# Altium schematic symbol library MOTELIGHT_ED03R1_20200205.SCHLIB: 103 symbols (part 1 of 2)
Pins are listed as number, name and electrical type; pins without a type are passive.

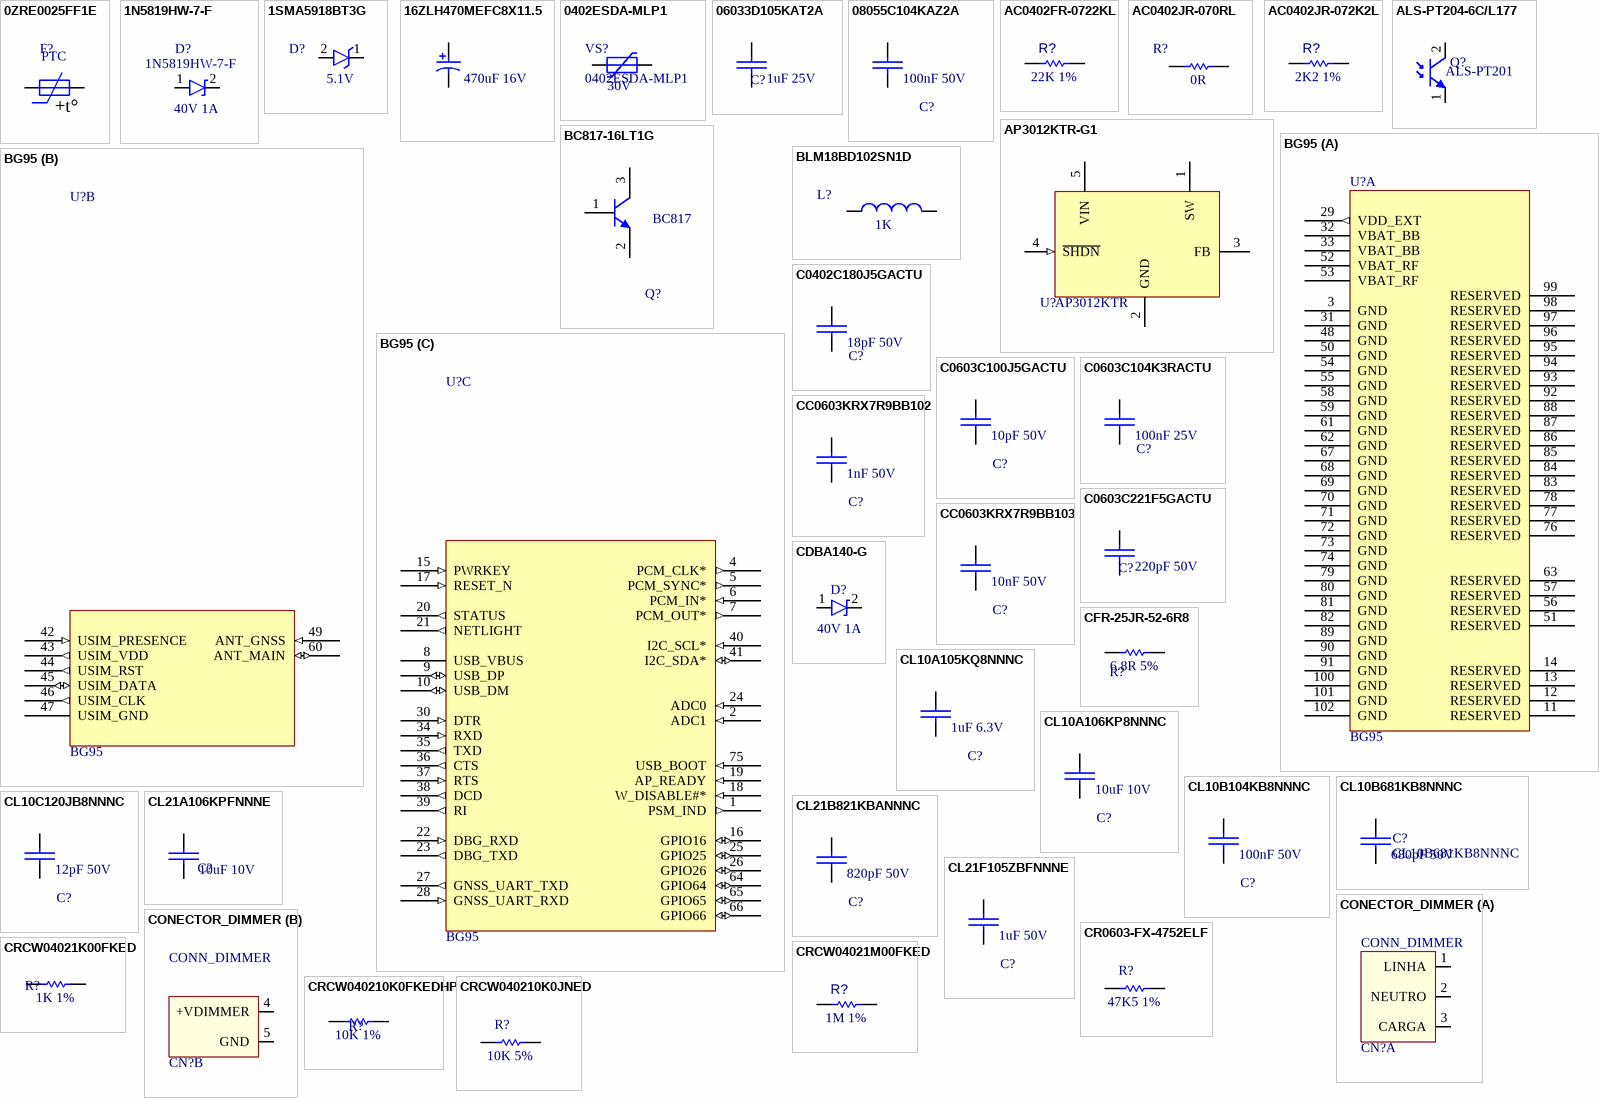
[diagram p0: symbols 0ZRE0025FF1E to CRCW040210K0JNED]

## 0ZRE0025FF1E
designator F?  VALOR: PTC  (hidden comment: 0ZRE0025FF1E)
PTC RESETTABLE 240V 250MA RADIAL; Manufacturer: Bel; ORIGEM: MoteLight_Ed03; Supplier 1: Digi-Key; Manufacturer Part Number: 0ZRE0025FF1E; Pricing 1: 1=0,42000, 5=0,40800, 10=0,39500, 50=0,33240, 100=0,27590, 250=0,25080, 500=0,21318, 1000=0,18810, 5000=0,16929 (USD); Case/Package: Radial; ComponentLink1Description: https://datasheet.ciiva.com/3020/0zre-3020114.pdf?src-supplier=Avnet; Supplier Part Number 1: 507-1352-ND
footprint PTC 0ZRE00 (PTC FUSIVEL RESSETAVEL)
pins: 1 A, 2 K
text: +t°

## 1N5819HW-7-F
designator D?  VALOR: 40V 1A
DIO SCHOTTKY 40V 1A SOD-123; Manufacturer: Diodes Inc; Manufacturer: Diodes; ORIGEM: MoteLight_Ed03; ComponentLink1Description: Manufacturer URL; Manufacturer Part Number: 1N5819HW-7-F; Case/Package: SOD-123
footprint DIO SOD-123-2_V
pins: 1 A, 2 K

## 1SMA5918BT3G
designator D?  VALOR: 5.1V  (hidden comment: 1SMA5918BT3G)
DIO ZENER 5.1V 1.5W SMA; Manufacturer: ON Semiconductor; ORIGEM: MoteLight_Ed02; Supplier 1: Digi-Key; Manufacturer Part Number: 1SMA5918BT3G; Pricing 1: 1=0.48, 10=0.365, 100=0.2273, 500=0.15552, 1000=0.11964 (USD); ComponentLink1URL: https://www.onsemi.com/pub/Collateral/1SMA5913BT3-D.PDF?src-supplier=Digi-Key; ComponentLink1Description: https://www.onsemi.com/pub/Collateral/1SMA5913BT3-D.PDF?src-supplier=Digi-Key; Case/Package: SMA
footprint DIO 403D (SMA)
pins: 1 K, 2 A

## 16ZLH470MEFC8X11.5
designator C?  VALOR: 470uF 16V  (hidden comment: 16ZLH470MEFC8X11.5)
CAP ALUM ELE 470UF 20% 16V RADIAL; Manufacturer: Rubycon; ORIGEM: MoteLight_Ed03; Supplier 1: Digi-Key; Manufacturer Part Number: 16ZLH470MEFC8X11.5; Pricing 1: 1=0,40000, 10=0,27500, 100=0,16500, 500=0,12376, 1000=0,10450, 2500=0,09900, 5000=0,09350 (USD); Case/Package: Radial; ComponentLink1Description: https://datasheet.ciiva.com/11778/0900766b80e2f602-11778329.pdf?src-supplier=RSComponents; Supplier Part Number 1: 1189-1859-ND
footprint Capacitor_D8_L3.5 (capacitor diametro 8mm, lead 3,5mm, 13mm altura)
pins: 1, 2

## 0402ESDA-MLP1
designator VS?  VALOR: 30V
VAR SMD SUPPRESSOR ESD 30VDC 0402; Manufacturer: Eaton Cooper; ORIGEM: MoteLight_Ed03; Supplier 1: Digi-Key; Supplier Part Number 1: 283-2964-1-ND; Pricing 1: 1=0,36000, 10=0,29100, 25=0,26680, 100=0,16740, 250=0,16556, 500=0,15500, 1000=0,10540, 2500=0,10106, 5000=0,09300 (USD); Case/Package: 0402; ComponentLink1URL: https://datasheet.ciiva.com/26858/getdatasheetpartid-204179-26858064.pdf?src-supplier=Verical; ComponentLink1Description: https://datasheet.ciiva.com/26858/getdatasheetpartid-204179-26858064.pdf?src-supplier=Verical; ComponentLink2URL: https://datasheet.ciiva.com/4479/47c59e11-d058-4882-bc35-d8572f2ca054-38826-4479481.pdf?src-supplier=Mouser; ComponentLink2Description: https://datasheet.ciiva.com/4479/47c59e11-d058-4882-bc35-d8572f2ca054-38826-4479481.pdf?src-supplier=Mouser; ComponentLink3URL: https://datasheet.ciiva.com/16199/47c59e11-d058-4882-bc35-d8572f2ca054-16199996.pdf?src-supplier=Future+Electronics; ComponentLink3Description: https://datasheet.ciiva.com/16199/47c59e11-d058-4882-bc35-d8572f2ca054-16199996.pdf?src-supplier=Future+Electronics; ComponentLink4URL: https://datasheet.ciiva.com/14542/70149788-14542763.pdf?src-supplier=Allied+Electronics; ComponentLink4Description: https://datasheet.ciiva.com/14542/70149788-14542763.pdf?src-supplier=Allied+Electronics; Manufacturer Part Number: 0402ESDA-MLP1
footprint IND 0402 (INDUTOR 0402)
pins: 1, 2

## 06033D105KAT2A
designator C?  VALOR: 1uF 25V  (hidden comment: 06033D105KAT2A)
CAP SMD CER 1uF 25V X5R 0603; Manufacturer: AVX Interconnect / Elco; Manufacturer: Kyocera AVX; ORIGEM: MoteLight_Ed03; Supplier 1: Digi-Key; Supplier Part Number 1: 478-5142-1-ND; Manufacturer Part Number: 06033D105KAT2A; Pricing 1: 1=0,19000, 10=0,13000, 100=0,06590, 500=0,04508, 1000=0,03987 (USD); Case/Package: 0603; ComponentLink1Description: https://datasheet.ciiva.com/153/cx5r-153394.pdf?src-supplier=Digi-Key
footprint CAP 0603 (CAPACITOR 0603)
pins: 1, 2
1 alternate drawing of the same symbol

## 08055C104KAZ2A
designator C?  VALOR: 100nF 50V  (hidden comment: 08055C104KAZ2A)
CAP SMD CER 100nF 50V X7R 0805; Manufacturer: Kyocera AVX; ORIGEM: MoteLight_Ed02; Supplier 1: Digi-Key; Manufacturer Part Number: 08055C104KAZ2A; Pricing 1: 1=0.28, 10=0.19, 100=0.1075, 500=0.0759, 1000=0.06641 (USD); Case/Package: 0805; ComponentLink1URL: http://www.farnell.com/datasheets/2095836.pdf; ComponentLink1Description: http://www.farnell.com/datasheets/2095836.pdf; Supplier Part Number 1: 478-3553-6-ND
footprint CAP 0805 (CAPACITOR 0805)
pins: 1, 2

## AC0402FR-0722KL
designator R?  VALOR: 22K 1%  (hidden comment: AC0402FR-0722KL)
RES SMD 22K OHM 1% 1/16W 0402; Manufacturer: Yageo; ORIGEM: MoteLight_Ed03; Case/Package: 0402; Manufacturer Part Number: AC0402FR-0722KL; Supplier 1: Digi-Key; Supplier Part Number 1: YAG3458CT-ND
footprint RES 0402 (RESISTOR 0402)
pins: 1, 2
1 alternate drawing of the same symbol

## AC0402JR-070RL
designator R?  VALOR: 0R  (hidden comment: AC0402JR-070RL)
RES SMD 0 OHM 1/16W 0402; Manufacturer: Yageo; ORIGEM: MoteLight_Ed02; Supplier 1: Digi-Key; Manufacturer Part Number: AC0402JR-070RL; Pricing 1: 1 = 0,10000, 10 = 0,02300, 25 = 0,01680, 50 = 0,01260, 100 = 0,00940, 250 = 0,00716, 500 = 0,00572, 1000 = 0,00421, 5000 = 0,00302 (USD); ComponentLink1URL: http://www.mouser.com/ds/2/447/yageodocoutput-1111992.pdf?src-supplier=Mouser; ComponentLink1Description: http://www.mouser.com/ds/2/447/yageodocoutput-1111992.pdf?src-supplier=Mouser; Supplier Part Number 1: 311-0.0LBCT-ND; Case/Package: 0402
footprint RES 0402 (RESISTOR 0402)
pins: 1, 2

## AC0402JR-072K2L
designator R?  VALOR: 2K2 1%  (hidden comment: AC0402JR-072K2L)
RES SMD 2K2 OHM 5% 1/16W 0402; Manufacturer: Yageo; ORIGEM: MoteLight_Ed03; Case/Package: 0402; Manufacturer Part Number: AC0402JR-072K2L; Supplier 1: Mouser; Supplier Part Number 1: 603-AC0402JR-072K2L
footprint RES 0402 (RESISTOR 0402)
pins: 1, 2
1 alternate drawing of the same symbol

## ALS-PT204-6C/L177
designator Q?  VALOR: ALS-PT201  (hidden comment: ALS-PT204-6C/L177)
PHOTOTRANS LIGHT SENSOR  3MM ALS-PT204; Manufacturer: Everlight; ORIGEM: MoteLight_Ed02; Supplier 1: Digi-Key; Pricing 1: 1 = 0,42000, 5 = 0,39800, 10 = 0,35300, 25 = 0,32560, 50 = 0,26040, 100 = 0,22320, 500 = 0,19530, 1000 = 0,16740, 5000 = 0,14880 (USD); Case/Package: Radial; ComponentLink1URL: https://datasheet.ciiva.com/4270/alspt2046cl1771589-4270328.pdf?src-supplier=Arrow; ComponentLink1Description: https://datasheet.ciiva.com/4270/alspt2046cl1771589-4270328.pdf?src-supplier=Arrow; Supplier Part Number 1: 1080-1019-ND; Manufacturer Part Number: ALS-PT204-6C/L177
footprint LED 3MM_REDONDO
pins: 1, 2

## AP3012KTR-G1
designator U?  VALOR: AP3012KTR  (hidden comment: AP3012KTR-G1)
IC REG BOOST ADJ 0.5A SOT25 AP3012KTR; Manufacturer: Diodes; ORIGEM: MoteLight_Ed03; Supplier 1: Digi-Key; Pricing 1: 1=0.48, 10=0.387, 100=0.2637, 500=0.19776, 1000=0.14832 (USD); ComponentLink1Description: http://www.diodes.com/datasheets/AP3012.pdf?src-supplier=Avnet; Supplier 2: Future Electronics; Pricing 2: 1=0.157, 100=0.141, 250=0.138, 500=0.136, 1500=0.133 (USD); Supplier Part Number 1: AP3012KTR-G1DICT-ND; Supplier Part Number 2: AP3012KTR-G1-CUTT; Manufacturer Part Number: AP3012KTR-G1; Case/Package: SOT-23-5
footprint IC SOT-23-5
pins: 1 SW, 2 GND (power), 3 FB, 4 ~{SHDN} (in), 5 VIN (power)

## BC817-16LT1G
designator Q?, comment VALOR: BC817  (hidden comment: TRN_BC817-16LT1G)
TRANS NPN 45V 0.5A SOT23 BC817; Manufacturer: ON Semiconductor; ORIGEM: MoteLight_Ed02; Supplier 1: Digi-Key; Pricing 1: 1 = 0,15000, 10 = 0,14100, 100 = 0,07660, 500 = 0,04712, 1000 = 0,03213 (USD); Case/Package: SOT-23-3; ComponentLink1URL: https://datasheet.ciiva.com/15139/getdatasheetpartid-72095-15139003.pdf?src-supplier=Verical; ComponentLink1Description: https://datasheet.ciiva.com/15139/getdatasheetpartid-72095-15139003.pdf?src-supplier=Verical; Supplier Part Number 1: BC817-16LT1GOSCT-ND; Manufacturer Part Number: BC817-16LT1G
footprint IC SOT-23-3
pins: 1 B, 2 E, 3 C

## BG95
designator U?, comment VALOR: BG95  (hidden comment: BG95A)
IC MODULE LTE CAT-M BG95; Manufacturer: Quectel; ORIGEM: MoteLight_Ed01r1; Case/Package: BGA; Manufacturer Part Number: BG95
footprint IC BG96 PINOS SUPRIMIDOS MOTELIGHT ED03
part A pins: 3 GND (power) "Ground", 11 RESERVED "Reserved", 12 RESERVED "Reserved", 13 RESERVED "Reserved", 14 RESERVED "Reserved", 29 VDD_EXT (out) "Provide 1.8V for external circuit", 31 GND (power) "Ground", 32 VBAT_BB (power) "Power supply for the module’s baseband part", 33 VBAT_BB (power) "Power supply for the module’s baseband part", 48 GND (power) "Ground", 50 GND (power) "Ground", 51 RESERVED "Reserved", 52 VBAT_RF (power) "Power supply for the module’s RF part", 53 VBAT_RF (power) "Power supply for the module’s RF part", 54 GND (power) "Ground", 55 GND (power) "Ground", 56 RESERVED "Reserved", 57 RESERVED "Reserved", 58 GND (power) "Ground", 59 GND (power) "Ground", 61 GND (power) "Ground", 62 GND (power) "Ground", 63 RESERVED "Reserved", 67 GND (power) "Ground", 68 GND (power) "Ground", 69 GND (power) "Ground", 70 GND (power) "Ground", 71 GND (power) "Ground", 72 GND (power) "Ground", 73 GND (power) "Ground", 74 GND (power) "Ground", 76 RESERVED "Reserved", 77 RESERVED "Reserved", 78 RESERVED "Reserved", 79 GND (power) "Ground", 80 GND (power) "Ground", 81 GND (power) "Ground", 82 GND (power) "Ground", 83 RESERVED "Reserved", 84 RESERVED "Reserved", 85 RESERVED "Reserved", 86 RESERVED "Reserved", 87 RESERVED "Reserved", 88 RESERVED "Reserved", 89 GND (power) "Ground", 90 GND (power) "Ground", 91 GND (power) "Ground", 92 RESERVED "Reserved", 93 RESERVED "Reserved", 94 RESERVED "Reserved", 95 RESERVED "Reserved", 96 RESERVED "Reserved", 97 RESERVED "Reserved", 98 RESERVED "Reserved", 99 RESERVED "Reserved", 100 GND (power) "Ground", 101 GND (power) "Ground", 102 GND (power) "Ground"
part B pins: 42 USIM_PRESENCE (in) "(U)SIM card insertion detection", 43 USIM_VDD (out) "Power supply for (U)SIM card", 44 USIM_RST (out) "Reset signal of (U)SIM card", 45 USIM_DATA (io) "Data signal of (U)SIM card", 46 USIM_CLK (out) "Clock signal of (U)SIM card", 47 USIM_GND (power) "Specified ground for (U)SIM card", 49 ANT_GNSS (in) "GNSS antenna interface", 60 ANT_MAIN (io) "Main antenna interface"
part C pins: 1 PSM_IND (out) "Power saving mode indicator", 2 ADC1 (in) "General purpose analog to digital converter interface", 4 PCM_CLK* (out) "PCM clock output", 5 PCM_SYNC* (out) "PCM frame synchronization output", 6 PCM_IN* (in) "PCM data input", 7 PCM_OUT* (out) "PCM data output", 8 USB_VBUS (power) "USB detection", 9 USB_DP (io) "USB differential data bus (+)", 10 USB_DM (io) "IO USB differential data bus (-)", 15 PWRKEY (in) "Turn on/off the module", 16 GPIO16 (io) "Generalpurpose input/ output interface", 17 RESET_N (in) "Reset the module", 18 W_DISABLE#* (in) "Airplane mode control", 19 AP_READY (in) "Application processor sleep state detection", 20 STATUS (out) "Indicate the module’s operation status", 21 NETLIGHT (out) "Indicate the module’s network activity status", 22 DBG_RXD (in) "Receive data", 23 DBG_TXD (out) "Transmit data", 24 ADC0 (in) "General purpose analog to digital converter interface", 25 GPIO25 (io) "Generalpurpose input/ output interface", 26 GPIO26 (io) "Generalpurpose input/ output interface", 27 GNSS_UART_TXD (out) "Transmit data", 28 GNSS_UART_RXD (in) "Receive data", 30 DTR (in) "Data terminal ready(sleep mode control)", 34 RXD (in) "Receive data", 35 TXD (out) "Transmit data", 36 CTS (out) "Clear to send", 37 RTS (in) "Request to send", 38 DCD (out) "Data carrier detection", 39 RI (out) "Ring indicator", 40 I2C_SCL* (in) "I2C serial clock. Used for external codec.", 41 I2C_SDA* (io) "I2C serial data. Used for external codec.", 64 GPIO64 (io) "Generalpurpose input/ output interface", 65 GPIO65 (io) "Generalpurpose input/ output interface", 66 GPIO66 (io) "Generalpurpose input/ output interface", 75 USB_BOOT (in) "Force the module to enter into emergency download mode"

## BLM18BD102SN1D
designator L?  VALOR: 1K  (hidden comment: BLM18BD102SN1D)
FERRITE BEAD 1 KOHM 0.1A 0603 1LN; Manufacturer: Murata; ORIGEM: MoteLight_Ed02; Supplier 1: Digi-Key; Manufacturer Part Number: BLM18BD102SN1D; Pricing 1: 1 = 0,10000, 10 = 0,07900, 25 = 0,07120, 50 = 0,05220, 100 = 0,04510, 250 = 0,03564, 500 = 0,03010, 1000 = 0,02534 (USD); ComponentLink1URL: https://datasheet.ciiva.com/19458/1844871-19458420.pdf?src-supplier=Jameco; ComponentLink1Description: https://datasheet.ciiva.com/19458/1844871-19458420.pdf?src-supplier=Jameco; Supplier Part Number 1: 490-1024-1-ND; Case/Package: 0603
footprint IND 0603 (INDUTOR 0603)
pins: 1, 2

## C0402C180J5GACTU
designator C?  VALOR: 18pF 50V  (hidden comment: C0402C180J5GACTU)
CAP SMD CER 18pF 50V C0G 0402; Manufacturer: KEMET; ORIGEM: MoteLight_Ed02; Supplier 1: Arrow; Manufacturer Part Number: C0402C180J5GACTU; Pricing 1: 1 = 0,08620, 10 = 0,03480, 25 = 0,02390, 100 = 0,01380, 250 = 0,01360, 500 = 0,01100, 1000 = 0,00940, 3000 = 0,00690, 6000 = 0,00620, 15000 = 0,00500 (USD); ComponentLink1URL: https://datasheet.ciiva.com/7392/40889-7392233.pdf?src-supplier=Newark; ComponentLink1Description: https://datasheet.ciiva.com/7392/40889-7392233.pdf?src-supplier=Newark; Supplier Part Number 1: C0402C180J5GACTU; Case/Package: 0402
footprint CAP 0402 (CAPACITOR 0402)
pins: 1, 2

## C0603C100J5GACTU
designator C?  VALOR: 10pF 50V  (hidden comment: C0603C100J5GACTU)
CAP SMD CER 10pF 50V 0603; Manufacturer: KEMET; ORIGEM: MoteLight_Ed02; Supplier 1: Digi-Key; Manufacturer Part Number: C0603C100J5GACTU; Pricing 1: 1=0.15, 10=0.11, 100=0.0515, 500=0.03614, 1000=0.02992 (USD); Case/Package: 0603; ComponentLink1URL: https://www.verical.com/server-webapp/html/getDatasheet?partID=299146&src-supplier=Verical; ComponentLink1Description: https://www.verical.com/server-webapp/html/getDatasheet?partID=299146&src-supplier=Verical; Supplier Part Number 1: 399-1049-1-ND
footprint CAP 0603 (CAPACITOR 0603)
pins: 1, 2

## C0603C104K3RACTU
designator C?  VALOR: 100nF 25V  (hidden comment: C0603C104K3RACTU)
CAP SMD CER 100nF 25V X7R 0603; Manufacturer: KEMET; ORIGEM: MoteLight_Ed02; Supplier 1: Digi-Key; Manufacturer Part Number: C0603C104K3RACTU; Pricing 1: 1 = 0,15000, 10 = 0,10900, 100 = 0,05110, 500 = 0,03580, 1000 = 0,02963 (USD); Case/Package: 0603; ComponentLink1URL: https://datasheet.ciiva.com/7258/1828800-7258395.pdf?src-supplier=Newark; ComponentLink1Description: https://datasheet.ciiva.com/7258/1828800-7258395.pdf?src-supplier=Newark; Supplier Part Number 1: 399-1281-1-ND
footprint CAP 0603 (CAPACITOR 0603)
pins: 1, 2

## C0603C221F5GACTU
designator C?  VALOR: 220pF 50V  (hidden comment: C0603C221F5GACTU)
CAP SMD CER 220PF 50V C0G/NP0 0603; Manufacturer: Kemet; ORIGEM: MoteLight_Ed03; Supplier 1: Digi-Key; Supplier Part Number 1: 399-7876-6-ND; Manufacturer Part Number: C0603C221F5GACTU; Pricing 1: 1=0,33000, 10=0,22800, 100=0,12900, 500=0,09108, 1000=0,07970 (USD); Case/Package: 0603; ComponentLink1Description: https://datasheet.ciiva.com/5414/kem-c1003-c0g-smd-5414749.pdf?src-supplier=Mouser; Manufacturer: KEMET
footprint CAP 0603 (CAPACITOR 0603)
pins: 1, 2
1 alternate drawing of the same symbol

## CC0603KRX7R9BB102
designator C?  VALOR: 1nF 50V  (hidden comment: CC0603KRX7R9BB102)
CAP SMD CER 1nF 50V X7R 0603; Manufacturer: Yageo; ORIGEM: MoteLight_Ed03; Supplier 1: Digi-Key; Manufacturer Part Number: CC0603KRX7R9BB102; Pricing 1: 1=0.1, 10=0.042, 100=0.0187, 500=0.01334, 1000=0.01048 (USD); Case/Package: 0603; ComponentLink1Description: http://www.yageo.com/documents/recent/UPY-GPHC_X7R_6.3V-to-50V_18.pdf?src-supplier=Digi-Key; Supplier Part Number 1: 311-1080-1-ND
footprint CAP 0603 (CAPACITOR 0603)
pins: 1, 2

## CC0603KRX7R9BB103
designator C?  VALOR: 10nF 50V  (hidden comment: CC0603KRX7R9BB103)
CAP SMD CER 10nF 50V X7R 0603; Manufacturer: Yageo; ORIGEM: MoteLight_Ed02; Supplier 1: Digi-Key; Manufacturer Part Number: CC0603KRX7R9BB103; Pricing 1: 1=0.1, 10=0.038, 100=0.0171, 500=0.01224, 1000=0.00962 (USD); Case/Package: 0603; ComponentLink1URL: http://www.farnell.com/datasheets/1734573.pdf?src-supplier=Element14; ComponentLink1Description: http://www.farnell.com/datasheets/1734573.pdf?src-supplier=Element14; Supplier Part Number 1: 311-1085-1-ND
footprint CAP 0603 (CAPACITOR 0603)
pins: 1, 2

## CDBA140-G
designator D?  VALOR: 40V 1A  (hidden comment: CDBA140-G)
DIO SCHOTTKY 40V 1A DO214AC; Manufacturer: Comchip; ORIGEM: MoteLight_Ed03; Supplier 1: Digi-Key; Pricing 1: 1=0,34000, 10=0,27700, 100=0,11330, 500=0,09450, 1000=0,06566, 2500=0,06103 (USD); ComponentLink1Description: https://datasheet.ciiva.com/912/cdba120-gthru934256-cdba1100-grevc-912052.pdf?src-supplier=Digi-Key; Supplier Part Number 1: 641-1015-1-ND; Case/Package: D0214; Manufacturer Part Number: CDBA140-G
footprint DIO DO214 AC (SMA)
pins: 1 A, 2 K

## CFR-25JR-52-6R8
designator R?  VALOR: 6.8R 5%  (hidden comment: CFR-25JR-52-6R8)
RES SMD 6.8 OHM 5% 1/4W  AXIAL; Manufacturer: Yageo; ORIGEM: MoteLight_Ed03; Supplier 1: Digi-Key; Manufacturer Part Number: CFR-25JR-52-6R8; Pricing 1: 5000=0,00884, 10000=0,00793, 25000=0,00728, 50000=0,00684, 125000=0,00668 (USD); Case/Package: Axial; ComponentLink1Description: http://www.yageo.com/NewPortal/yageodocoutput?fileName=/pdf/throughhole/Yageo_LR_CFR_2013.pdf&src-supplier=Digi-Key; Supplier Part Number 1: 6.8QTR-ND
footprint RESISTOR PTH 1/4W (Footprint not found)
pins: 1, 2

## CL10A105KQ8NNNC
designator C?  VALOR: 1uF 6.3V  (hidden comment: CL10A105KQ8NNNC)
CAP SMD CER 1uF 6.3V X5R 0603; Manufacturer: Samsung; ORIGEM: MoteLight_Ed02; Supplier 1: Digi-Key; Manufacturer Part Number: CL10A105KQ8NNNC; Pricing 1: 1=0.1, 10=0.031, 100=0.014, 500=0.01002, 1000=0.00787 (USD); Case/Package: 0603; ComponentLink1URL: https://www.verical.com/server-webapp/html/getDatasheet?partID=355285; ComponentLink1Description: https://www.verical.com/server-webapp/html/getDatasheet?partID=355285; Supplier Part Number 1: 1276-1036-6-ND
footprint CAP 0603 (CAPACITOR 0603)
pins: 1, 2

## CL10A106KP8NNNC
designator C?  VALOR: 10uF 10V  (hidden comment: CL10A106KP8NNNC)
CAP SMD CER 10uF 10V 0603; Manufacturer: Samsung; ORIGEM: MoteLight_Ed03; Supplier 1: Digi-Key; Manufacturer Part Number: CL10A106KP8NNNC; Pricing 1: 1=0.36, 10=0.248, 100=0.1403, 500=0.099, 1000=0.08663 (USD); Case/Package: 0603; ComponentLink1Description: https://www.verical.com/server-webapp/html/getDatasheet?partID=359551; Supplier Part Number 1: 1276-1192-1-ND
footprint CAP 0603 (CAPACITOR 0603)
pins: 1, 2

## CL10B104KB8NNNC
designator C?  VALOR: 100nF 50V  (hidden comment: CL10B104KB8NNNC)
CAP SMD CER 100nF 50V 0603; Manufacturer: Samsung; ORIGEM: MoteLight_Ed02; Supplier 1: Digi-Key; Manufacturer Part Number: CL10B104KB8NNNC; Pricing 1: 4000=0.00627 (USD); Case/Package: 0603; ComponentLink1URL: https://media.digikey.com/pdf/Data%20Sheets/Samsung%20PDFs/CL_Series_MLCC_ds.pdf; ComponentLink1Description: https://media.digikey.com/pdf/Data%20Sheets/Samsung%20PDFs/CL_Series_MLCC_ds.pdf; Supplier Part Number 1: 1276-1000-2-ND
footprint CAP 0603 (CAPACITOR 0603)
pins: 1, 2

## CL10B681KB8NNNC
designator C?  VALOR: 680pF 50V
CAP SMD CER 680pF 50V 10% 0603; Manufacturer: Samsung; ORIGEM: MoteLight_Ed02; Supplier 1: Digi-Key; Manufacturer Part Number: CL10B681KB8NNNC; Pricing 1: 1=0.1, 10=0.038, 100=0.0169, 500=0.01208, 1000=0.00949 (USD); ComponentLink1URL: https://www.verical.com/server-webapp/html/getDatasheet?partID=636613&src-supplier=Verical; ComponentLink1Description: https://www.verical.com/server-webapp/html/getDatasheet?partID=636613&src-supplier=Verical; Supplier Part Number 1: 1276-1080-1-ND; Case/Package: 0603
footprint CAP 0603 (CAPACITOR 0603)
pins: 1, 2

## CL10C120JB8NNNC
designator C?  VALOR: 12pF 50V  (hidden comment: CL10C120JB8NNNC)
CAP SMD CER 12pF 50V C0G 0603; Manufacturer: Samsung; ORIGEM: MoteLight_Ed02; Supplier 1: Digi-Key; Manufacturer Part Number: CL10C120JB8NNNC; Pricing 1: 1=0.1, 10=0.056, 100=0.0251, 500=0.01792, 1000=0.01408 (USD); Case/Package: 0603; ComponentLink1URL: https://media.digikey.com/pdf/Data%20Sheets/Samsung%20PDFs/CL_Series_MLCC_ds.pdf?src-supplier=Digi-Key; ComponentLink1Description: https://media.digikey.com/pdf/Data%20Sheets/Samsung%20PDFs/CL_Series_MLCC_ds.pdf?src-supplier=Digi-Key; Supplier Part Number 1: 1276-1254-1-ND
footprint CAP 0603 (CAPACITOR 0603)
pins: 1, 2

## CL21A106KPFNNNE
designator C?  VALOR: 10uF 10V  (hidden comment: CL21A106KPFNNNE)
CAP SMD CER 10uF 10V X5R 0805; Manufacturer: Samsung; ORIGEM: MoteLight_Ed02; Supplier 1: Digi-Key; Manufacturer Part Number: CL21A106KPFNNNE; Pricing 1: 1 = 0,13000, 10 = 0,09300, 100 = 0,04350, 500 = 0,03050, 1000 = 0,02525 (USD); Case/Package: 0805; ComponentLink1URL: https://datasheet.ciiva.com/16199/cl05b104kq5nnnc-16199024.pdf?src-supplier=Future+Electronics; ComponentLink1Description: https://datasheet.ciiva.com/16199/cl05b104kq5nnnc-16199024.pdf?src-supplier=Future+Electronics; Supplier Part Number 1: 1276-1052-1-ND
footprint CAP 0805 (CAPACITOR 0805)
pins: 1, 2

## CL21B821KBANNNC
designator C?  VALOR: 820pF 50V  (hidden comment: CL21B821KBANNNC)
CAP SMD CER 820pF 50V X7R 0805; Manufacturer: Samsung; ORIGEM: MoteLight_Ed02; Supplier 1: Digi-Key; Manufacturer Part Number: CL21B821KBANNNC; Pricing 1: 1=0.1, 10=0.054, 100=0.0242, 500=0.01728, 1000=0.01358 (USD); Case/Package: 0805; ComponentLink1URL: http://www1.futureelectronics.com/doc/SAMSUNG/CL21B821KBANNNC.pdf?src-supplier=Future+Electronics; ComponentLink1Description: http://www1.futureelectronics.com/doc/SAMSUNG/CL21B821KBANNNC.pdf?src-supplier=Future+Electronics; Supplier Part Number 1: 1276-2544-6-ND
footprint CAP 0805 (CAPACITOR 0805)
pins: 1, 2

## CL21F105ZBFNNNE
designator C?  VALOR: 1uF 50V  (hidden comment: CL21F105ZBFNNNE)
CAP SMD CER 1uF 50V Y5V 0805; Manufacturer: Samsung; ORIGEM: MoteLight_Ed02; Supplier 1: Digi-Key; Manufacturer Part Number: CL21F105ZBFNNNE; Pricing 1: 1=0.15, 10=0.106, 100=0.0498, 500=0.03488, 1000=0.02888 (USD); Case/Package: 0805; ComponentLink1URL: https://media.digikey.com/pdf/Data%20Sheets/Samsung%20PDFs/CL_Series_MLCC_ds.pdf?src-supplier=Digi-Key; ComponentLink1Description: https://media.digikey.com/pdf/Data%20Sheets/Samsung%20PDFs/CL_Series_MLCC_ds.pdf?src-supplier=Digi-Key; Supplier Part Number 1: 1276-3010-1-ND
footprint CAP 0805 (CAPACITOR 0805)
pins: 1, 2

## CONECTOR_DIMMER
designator CN?, comment VALOR: CONN_DIMMER  (hidden comment: CONECTOR_DIMMERA)
FURO PADS DE FIXACAO MOTELIGHT ED03; ORIGEM: MoteLight_Ed03; Case/Package: PTH; Manufacturer: -; Manufacturer Part Number: CONECTOR_DIMMERA
footprint CONN CONECTOR_DIMMER
part A pins: 1 LINHA, 2 NEUTRO, 3 CARGA
part B pins: 4 +VDIMMER, 5 GND

## CR0603-FX-4752ELF
designator R?  VALOR: 47K5 1%  (hidden comment: CR0603-FX-4752ELF)
RES SMD 47K5 OHM 1% 1/10W 0603; Manufacturer: Bourns; ORIGEM: MoteLight_Ed03; Supplier 1: Digi-Key; Manufacturer Part Number: CR0603-FX-4752ELF; Pricing 1: 1=0.1, 10=0.064, 100=0.0259, 1000=0.01163, 2500=0.0101 (USD); Case/Package: 0603; ComponentLink1Description: http://www.mouser.com/ds/2/54/chpreztr-977002.pdf?src-supplier=Mouser; Supplier Part Number 1: CR0603-FX-4752ELFDKR-ND
footprint RES 0603 (RESISTOR 0603)
pins: 1, 2

## CRCW04021K00FKED
designator R?  VALOR: 1K 1%  (hidden comment: CRCW04021K00FKED)
RES SMD 1K OHM 1% 1/16W 0402; Manufacturer: Vishay Dale; ORIGEM: MoteLight_Ed03; Supplier 1: Digi-Key; Supplier Part Number 1: 541-1.00KLDKR-ND; Manufacturer Part Number: CRCW04021K00FKED; Pricing 1: 1=0,10000, 10=0,03600, 100=0,01460, 1000=0,00657, 2500=0,00570, 5000=0,00471 (USD); Case/Package: 0402; ComponentLink1Description: https://datasheet.ciiva.com/11808/0900766b80d98824-11808638.pdf?src-supplier=RSComponents
footprint RES 0402 (RESISTOR 0402)
pins: 1, 2
1 alternate drawing of the same symbol

## CRCW04021M00FKED
designator R?  VALOR: 1M 1%  (hidden comment: CRCW04021M00FKED)
RES SMD 1M OHM 1% 1/16W 0402; Manufacturer: Vishay; ORIGEM: MoteLight_Ed03; Case/Package: 0402; Manufacturer Part Number: CRCW04021M00FKED; Supplier 1: Digi-Key; Supplier Part Number 1: 541-1.00MLCT-ND
footprint RES 0402 (RESISTOR 0402)
pins: 1, 2
1 alternate drawing of the same symbol

## CRCW040210K0FKEDHP
designator R?  VALOR: 10K 1%  (hidden comment: CRCW040210K0FKEDHP)
RES SMD 10K OHM 1% 1/5W 0402; Manufacturer: Vishay Dale; ORIGEM: MoteLight_Ed03; Supplier 1: Digi-Key; Supplier Part Number 1: 541-10.0KYCT-ND; Manufacturer Part Number: CRCW040210K0FKEDHP; Pricing 1: 1=0,14000, 10=0,12600, 100=0,04840, 1000=0,02130, 2500=0,01839, 5000=0,01646 (USD); Case/Package: 0402; ComponentLink1Description: https://datasheet.ciiva.com/9052/crcwhpe3-9052616.pdf?src-supplier=Avnet
footprint RES 0402 (RESISTOR 0402)
pins: 1, 2
1 alternate drawing of the same symbol

## CRCW040210K0JNED
designator R?  VALOR: 10K 5%  (hidden comment: CRCW040210K0JNED)
RES SMD 10K OHM 5% 1/16W 0402; Manufacturer: Vishay Dale; ORIGEM: MoteLight_Ed02; Supplier 1: Digi-Key; Manufacturer Part Number: CRCW040210K0JNED; Pricing 1: 1 = 0,10000, 10 = 0,03200, 100 = 0,01310, 1000 = 0,00590, 2500 = 0,00512, 5000 = 0,00423 (USD); Case/Package: 0402; ComponentLink1URL: https://datasheet.ciiva.com/2461/dcrcwe3-2461974.pdf?src-supplier=Digi-Key; ComponentLink1Description: https://datasheet.ciiva.com/2461/dcrcwe3-2461974.pdf?src-supplier=Digi-Key; Supplier Part Number 1: 541-10KJCT-ND
footprint RES 0402 (RESISTOR 0402)
pins: 1, 2

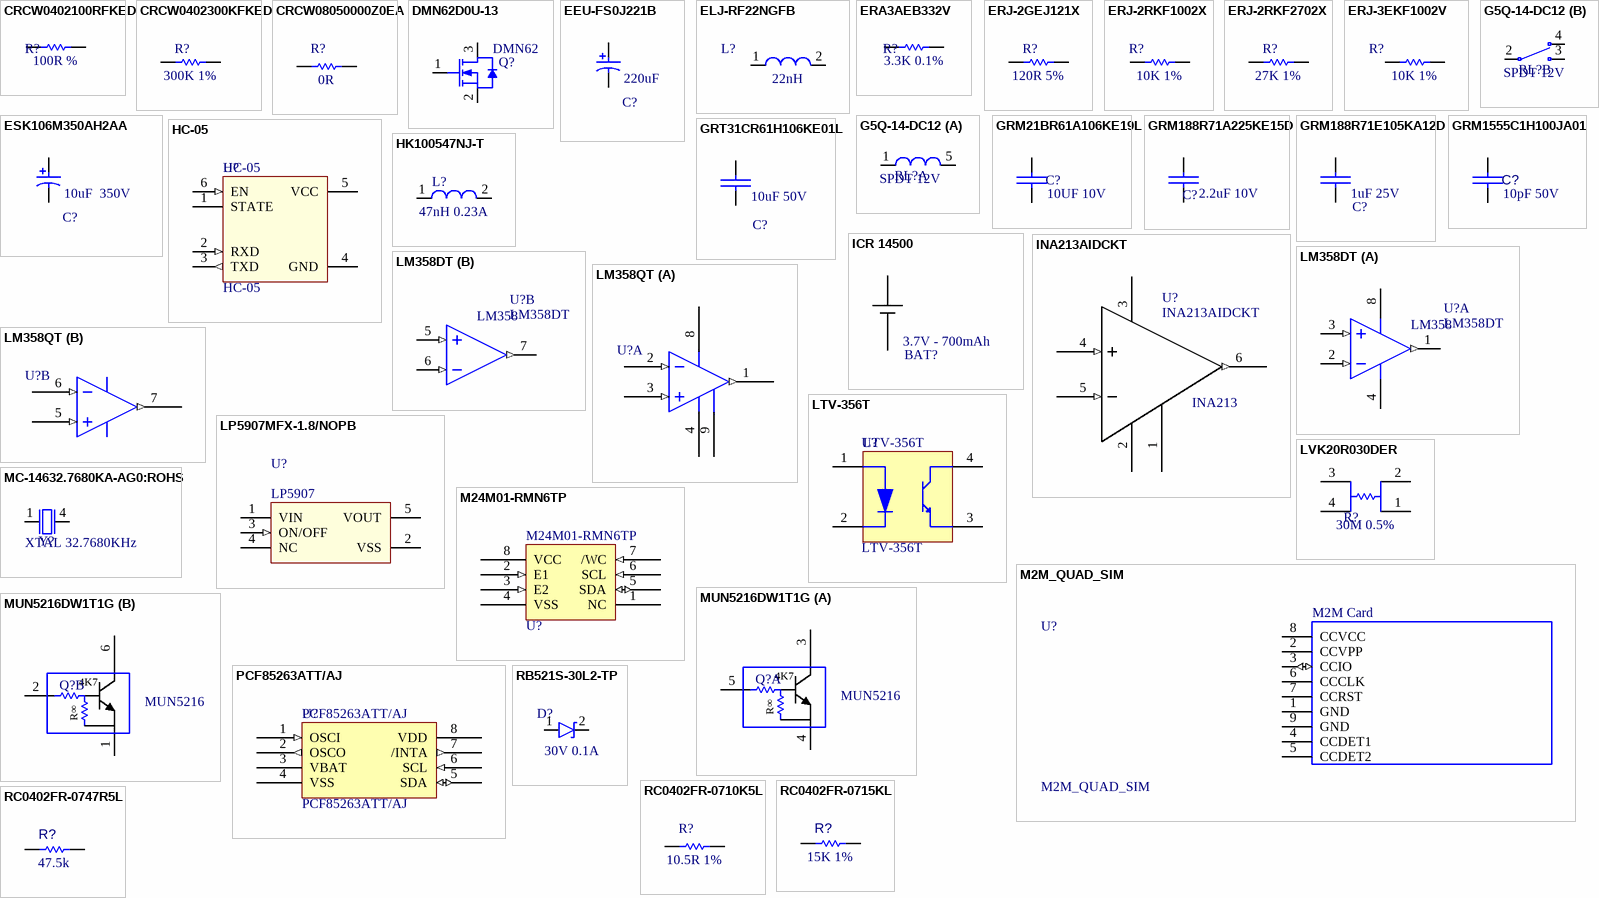
[diagram p1: symbols CRCW0402100RFKED to RC0402FR-0747R5L]

## CRCW0402100RFKED
designator R?  VALOR: 100R %  (hidden comment: CRCW0402100RFKED)
RES SMD 100 OHM 1% 1/16W 0402; Manufacturer: Vishay Dale; ORIGEM: MoteLight_Ed03; Supplier 1: Digi-Key; Supplier Part Number 1: 541-100LCT-ND; Manufacturer Part Number: CRCW0402100RFKED; Pricing 1: 1=0,10000, 10=0,03600, 100=0,01460, 1000=0,00657, 2500=0,00570, 5000=0,00471 (USD); Case/Package: 0402; ComponentLink1Description: https://datasheet.ciiva.com/11809/0900766b80d98824-11809081.pdf?src-supplier=RSComponents
footprint RES 0402 (RESISTOR 0402)
pins: 1, 2
1 alternate drawing of the same symbol

## CRCW0402300KFKED
designator R?  VALOR: 300K 1%  (hidden comment: CRCW0402300KFKED)
RES SMD 300K OHM 1% 1/16W 0402; Manufacturer: Vishay; ORIGEM: MoteLight_Ed03; Supplier 1: Digi-Key; Pricing 1: 1=0,10000, 10=0,03600, 100=0,01460, 1000=0,00657, 2500=0,00570, 5000=0,00471 (USD); Case/Package: 0402; ComponentLink1Description: https://datasheet.ciiva.com/11810/0900766b80d98824-11810173.pdf?src-supplier=RSComponents; Supplier Part Number 1: 541-300KLCT-ND; Manufacturer Part Number: CRCW0402300KFKED
footprint RES 0402 (RESISTOR 0402)
pins: 1, 2

## CRCW08050000Z0EA
designator R?  VALOR: 0R  (hidden comment: CRCW08050000Z0EA)
RES SMD 0 OHM 1/8W 0805; Manufacturer: Vishay; ORIGEM: MoteLight_Ed02; Supplier 1: Digi-Key; Manufacturer Part Number: CRCW08050000Z0EA; Pricing 1: 1 = 0,10000, 10 = 0,04400, 25 = 0,03160, 50 = 0,02420, 100 = 0,01780, 250 = 0,01360, 500 = 0,01090, 1000 = 0,00802 (USD); Case/Package: 0805; ComponentLink1URL: https://datasheet.ciiva.com/11811/0900766b80d98b26-11811304.pdf?src-supplier=RSComponents; ComponentLink1Description: https://datasheet.ciiva.com/11811/0900766b80d98b26-11811304.pdf?src-supplier=RSComponents; Supplier Part Number 1: 541-0.0ACT-ND
footprint RES 0805 (RESISTOR 0805)
pins: 1, 2

## DMN62D0U-13
designator Q?  VALOR: DMN62  (hidden comment: DMN62D0U-13)
TRANS MOSFET N-CH 60V 0.38A SOT-23 DMN62DOU; Manufacturer: Diodes; ORIGEM: MoteLight_Ed02; Supplier 1: Digi-Key; Manufacturer Part Number: DMN62D0U-13; Pricing 1: 1=0,31000, 10=0,25700, 100=0,10520, 500=0,08778, 1000=0,06100 (USD); Case/Package: SOT-23; ComponentLink1URL: http://www.mouser.com/ds/2/115/DMN62D0U-767517.pdf?src-supplier=Mouser; ComponentLink1Description: http://www.mouser.com/ds/2/115/DMN62D0U-767517.pdf?src-supplier=Mouser; Supplier Part Number 1: DMN62D0U-13DICT-ND
footprint IC SOT-23-3
pins: 1 G, 2 S, 3 D

## EEU-FS0J221B
designator C?  VALOR: 220uF  (hidden comment: EEU-FS0J221B)
CAP ALUM ELE 220UF 20% 6.3V T/H RADIAL; Manufacturer: Panasonic; ORIGEM: MoteLight_Ed02; Supplier 1: Digi-Key; Manufacturer Part Number: EEU-FS0J221B; Pricing 1: 1=0,10000, 10=0,04300 (USD); Case/Package: Radial; ComponentLink1URL: https://industrial.panasonic.com/cdbs/www-data/pdf/RDF0000/ABA0000C1255.pdf?src-supplier=Digi-Key; ComponentLink1Description: https://industrial.panasonic.com/cdbs/www-data/pdf/RDF0000/ABA0000C1255.pdf?src-supplier=Digi-Key; Supplier Part Number 1: P122286CT-ND
footprint CAP_POL_5dx2x11h (CAP ALUM POL D=5mm P = 2mm h = 11mm)
pins: 1, 2

## ELJ-RF22NGFB
designator L?  VALOR: 22nH  (hidden comment: ELJ-RF22NGFB)
IND SMD 22nH 2%  800mOhm 0402; Manufacturer: Panasonic; ORIGEM: MoteLight_Ed02; Supplier 1: Arrow; Manufacturer Part Number: ELJ-RF22NGFB; Case/Package: 0402; ComponentLink1URL: https://datasheet.ciiva.com/24070/aga0000ce24-465590-24070665.pdf?src-supplier=Mouser; ComponentLink1Description: https://datasheet.ciiva.com/24070/aga0000ce24-465590-24070665.pdf?src-supplier=Mouser; Supplier Part Number 1: ELJ-RF22NGFB
footprint IND 0402 (INDUTOR 0402)
pins: 1, 2

## ERA3AEB332V
designator R?  VALOR: 3.3K 0.1%  (hidden comment: ERA3AEB332V)
RES SMD 3.3K OHM 0.1% 1/10W 0603; Manufacturer: Panasonic; Manufacturer Part Number: ERA-3AEB332V; ORIGEM: MoteLight_Ed03; Supplier 1: Digi-Key; Supplier Part Number 1: P3.3KDBCT-ND; Case/Package: 0603
footprint RES 0603 (RESISTOR 0603)
pins: 1, 2
1 alternate drawing of the same symbol

## ERJ-2GEJ121X
designator R?  VALOR: 120R 5%  (hidden comment: ERJ-2GEJ121X)
RES SMD 120 OHM 5% 1/10W 0402; Manufacturer: Panasonic; ORIGEM: MoteLight_Ed02; Manufacturer Part Number: ERJ-2GEJ121X; Pricing 1: 1=0.1, 10=0.031, 100=0.0125, 1000=0.0056, 2500=0.00486, 5000=0.00401 (USD); Case/Package: 0402; ComponentLink1URL: http://www.jameco.com/Jameco/Products/ProdDS/1986810.pdf?src-supplier=Jameco; ComponentLink1Description: http://www.jameco.com/Jameco/Products/ProdDS/1986810.pdf?src-supplier=Jameco; Supplier Part Number 1: P120JCT-ND; Supplier 1: Digi-Key
footprint RES 0402 (RESISTOR 0402)
pins: 1, 2

## ERJ-2RKF1002X
designator R?  VALOR: 10K 1%  (hidden comment: ERJ-2RKF1002X)
RES SMD 10K OHM 1% 1/10W 0402; Manufacturer: Panasonic; ORIGEM: MoteLight_Ed03; ComponentLink1Description: Manufacturer URL; Manufacturer Part Number: ERJ-2RKF1002X; Case/Package: 0402; Supplier 1: Digi-Key; Supplier Part Number 1: P10.0KLDKR-ND
footprint RES 0402 (RESISTOR 0402)
pins: 1, 2

## ERJ-2RKF2702X
designator R?, comment VALOR: 27K 1%  (hidden comment: RES SMD 27K 0402)
RES SMD 27K OHM 1% 1/10W 0402; Manufacturer: Panasonic; Manufacturer Part Number: ERJ-2RKF2702X; ORIGEM: MoteLight_Ed03; Supplier 1: Digi-Key; Pricing 1: 1=0,10000, 10=0,04100, 100=0,01670, 1000=0,00751, 2500=0,00652, 5000=0,00538 (USD); Case/Package: 0402; ComponentLink1Description: https://datasheet.ciiva.com/11821/0900766b80f80784-11821258.pdf?src-supplier=RSComponents; Supplier Part Number 1: P27.0KLCT-ND
footprint RES 0402 (RESISTOR 0402)
pins: 1, 2

## ERJ-3EKF1002V
designator R?  VALOR: 10K 1%  (hidden comment: ERJ-3EKF1002V)
RES SMD 10K OHM 1% 1/10W 0603; Manufacturer: Panasonic; ORIGEM: MoteLight_Ed02; Supplier 1: Digi-Key; Manufacturer Part Number: ERJ-3EKF1002V; Pricing 1: 1 = 0,10000, 10 = 0,06500, 100 = 0,02640, 1000 = 0,01186, 2500 = 0,01029 (USD); Case/Package: 0603; ComponentLink1URL: https://datasheet.ciiva.com/16511/aoa0000ce2-16511861.pdf?src-supplier=Avnet+Asia; ComponentLink1Description: https://datasheet.ciiva.com/16511/aoa0000ce2-16511861.pdf?src-supplier=Avnet+Asia; Supplier Part Number 1: P10.0KHCT-ND
footprint RES 0603 (RESISTOR 0603)
pins: 1, 2

## ESK106M350AH2AA
designator C?  VALOR: 10uF  350V  (hidden comment: ESK106M350AH2AA)
CAP ALUM ELE 10uF 20% 350V RADIAL; Manufacturer: KEMET; ORIGEM: MoteLight_Ed03; Supplier 1: Digi-Key; Pricing 1: 1=0,46000, 10=0,32600, 100=0,21440, 500=0,15880, 1000=0,13498, 2500=0,12704, 5000=0,11910 (USD); Case/Package: Radial; ComponentLink1Description: https://datasheet.ciiva.com/22621/1500292-22621029.pdf?src-supplier=Element14; Supplier Part Number 1: 399-6101-ND; Manufacturer Part Number: ESK106M350AH2AA
footprint Capacitor_D10 H17mm (capacitor diametro 10mm, lead 5mm, 17mm altura)
pins: 1, 2

## G5Q-14-DC12
designator RL?  VALOR: SPDT 12V  (hidden comment: G5Q-14-DC12)
RELE SPDT 12VDC 360Ohm Through Hole; Manufacturer: Omron; ORIGEM: MoteLight_Ed03; Supplier 1: Digi-Key; Manufacturer Part Number: G5Q-14-DC12; Pricing 1: 1=1.43, 10=1.344, 25=1.1948, 50=1.1348, 100=1.0751, 250=0.95568, 500=0.89596 (USD); ComponentLink1Description: http://www.mouser.com/ds/2/307/en-g5q-22333.pdf?src-supplier=Mouser; Supplier Part Number 1: Z225-ND; Case/Package: PTH
footprint RELE G5Q14EUDC5
part A pins: 1, 5
part B pins: 2 COM-1, 3 N.O-1, 4 N.C-1

## GRM21BR61A106KE19L
designator C?  VALOR: 10UF 10V  (hidden comment: GRM21BR61A106KE19L)
CAP SMD CER 10uF 10V X5R 0805; Manufacturer: Murata; ORIGEM: MoteLight_Ed02; Supplier 1: Digi-Key; Supplier Part Number 1: 490-1709-1-ND; Pricing 1: 1=0.27 (USD); ComponentLink1URL: https://www.distrelec.biz/Web/Downloads/_t/ds/murata_MLCC_eng_tds.pdf?mime=application%2Fpdf&src-supplier=Distrelec; ComponentLink1Description: https://www.distrelec.biz/Web/Downloads/_t/ds/murata_MLCC_eng_tds.pdf?mime=application%2Fpdf&src-supplier=Distrelec; Manufacturer Part Number: GRM21BR61A106KE19L; Case/Package: 0805
footprint CAP 0805 (CAPACITOR 0805)
pins: 1, 2

## GRM188R71A225KE15D
designator C?  VALOR: 2.2uF 10V  (hidden comment: GRM188R71A225KE15D)
CAP SMD CER 2.2uF 10V X7R 0603; Manufacturer: Murata; ORIGEM: MoteLight_Ed02; Supplier 1: Digi-Key; Supplier Part Number 1: 490-4520-1-ND; Manufacturer Part Number: GRM188R71A225KE15D; Pricing 1: 1=0,28000, 10=0,19200, 100=0,10870, 500=0,07672, 1000=0,06713 (USD); Case/Package: 0603; ComponentLink1URL: https://datasheet.ciiva.com/138/product-138560.pdf?src-supplier=Digi-Key; ComponentLink1Description: https://datasheet.ciiva.com/138/product-138560.pdf?src-supplier=Digi-Key
footprint CAP 0603 (CAPACITOR 0603)
pins: 1, 2
1 alternate drawing of the same symbol

## GRM188R71E105KA12D
designator C?  VALOR: 1uF 25V  (hidden comment: GRM188R71E105KA12D)
CAP SMD CER 1uF 25V X7R 0603; Manufacturer: Murata; ORIGEM: MoteLight_Ed02; Supplier 1: Arrow; Manufacturer Part Number: GRM188R71E105KA12D; ComponentLink1URL: https://datasheet.ciiva.com/16625/product-16625507.pdf?src-supplier=Avnet+Europe; ComponentLink1Description: https://datasheet.ciiva.com/16625/product-16625507.pdf?src-supplier=Avnet+Europe; Case/Package: 0603
footprint CAP 0603 (CAPACITOR 0603)
pins: 1, 2

## GRM1555C1H100JA01
designator C?  VALOR: 10pF 50V  (hidden comment: GRM1555C1H100JA01)
CAP SMD CER 10pF 50V C0G 0402; Manufacturer: Murata; ORIGEM: MoteLight_Ed03; Case/Package: 0402; Manufacturer Part Number: GRM1555C1H100JA01; Supplier 1: Digi-Key; Supplier Part Number 1: 490-11373-1-ND
footprint CAP 0402 (CAPACITOR 0402)
pins: 1, 2

## GRT31CR61H106KE01L
designator C?  VALOR: 10uF 50V  (hidden comment: GRT31CR61H106KE01L)
CAP SMD CER 10uF 50V X5R 1206; Manufacturer: Murata; ORIGEM: MoteLight_Ed02; Supplier 1: Digi-Key; Manufacturer Part Number: GRT31CR61H106KE01L; Pricing 1: 1=0.77, 10=0.569, 100=0.3903, 500=0.30902, 1000=0.26023 (USD); Case/Package: 1206; Supplier Part Number 1: 490-12456-1-ND
footprint CAP 1206 (CAPACITOR 1206)
pins: 1, 2

## HC-05
designator U?
IC BLUETOOTH MODULE HC05 5V; ORIGEM: MoteLight_Ed03; Case/Package: MODULE; Manufacturer Part Number: HC-05; VALOR: HC-05
footprint IC HC-05 (FOOTPRINT DO MODULO HC-05 BLUETOOTH)
pins: 1 STATE, 2 RXD (in), 3 TXD (out), 4 GND (power), 5 VCC (power), 6 EN (in)

## HK100547NJ-T
designator L?  VALOR: 47nH 0.23A  (hidden comment: HK100547NJ-T)
IND SMD 47NH 230MA 1OHM 0402; Manufacturer: Taiyo Yuden; ORIGEM: MoteLight_Ed03; Supplier 1: Digi-Key; Manufacturer Part Number: HK100547NJ-T; Pricing 1: 1=0,10000, 10=0,02900, 100=0,01960, 500=0,01582, 1000=0,01351, 2500=0,01208 (USD); Case/Package: 0402; ComponentLink1Description: https://datasheet.ciiva.com/8001/hk100547nj-t-ss-8001958.pdf?src-supplier=Element14; Supplier Part Number 1: 587-1527-1-ND
footprint IND 0402 (INDUTOR 0402)
pins: 1, 2

## ICR 14500
designator BAT?  VALOR: 3.7V - 700mAh  (hidden comment: ICR 14500)
BATT LI-ION BATTERY (3.7V - 700mAh); Manufacturer: Ex Power; ORIGEM: MoteLight_Ed03; Case/Package: AA; Manufacturer Part Number: ICR 14500; Supplier 1: STREMA BATERIAS
pins: 8, 9

## INA213AIDCKT
designator U?  VALOR: INA213
IC CURRENT SENSE INA213; Manufacturer: Texas Instruments; ORIGEM: MoteLight_Ed03; Supplier 1: Digi-Key; Pricing 1: 1=1,49000, 10=1,34100, 25=1,26520, 100=1,01200 (USD); Case/Package: SC; ComponentLink1Description: https://datasheet.ciiva.com/1939/ina210-1939616.pdf?src-supplier=Digi-Key; Supplier Part Number 1: 296-23421-1-ND; Manufacturer Part Number: INA213AIDCKT
footprint IC DCK-6 (DCK-6)
pins: 1 REF (power), 2 GND (power), 3 V+ (power), 4 IN+1 (in), 5 IN-1 (in), 6 OUT1 (out)

## LM358DT
designator U?  VALOR: LM358
IC AMPOP LM358T; Manufacturer: ST; Manufacturer Part Number: LM358DTA; ORIGEM: MoteLight_Ed03; Case/Package: SO8N
footprint IC SO8N (SOIC 8 PINS)
part A pins: 1 OUT1 (out), 2 IN- (in), 3 IN+ (in), 4 V- (power), 8 V+ (power)
part B pins: 5 IN+ (in), 6 IN- (in), 7 OUT1 (out)

## LM358QT
designator U?, comment LM358QT - 8DFN  (value not drawn)
IC AMPOP GP 1.1MHZ 8DFN LM358QT; Manufacturer: STMicroelectronics; ORIGEM: MoteLight_Ed03; Supplier 1: Digi-Key; Supplier Part Number 1: 497-12007-1-ND; Pricing 1: 1=0,39000, 10=0,31500, 25=0,28840, 100=0,19460, 250=0,16104, 500=0,14762, 1000=0,11072 (USD); Case/Package: DFN; VALOR: LM358QT; ComponentLink1URL: https://datasheet.ciiva.com/16444/cd00000464-16444193.pdf?src-supplier=Future+Electronics; ComponentLink1Description: https://datasheet.ciiva.com/16444/cd00000464-16444193.pdf?src-supplier=Future+Electronics; ComponentLink2URL: https://datasheet.ciiva.com/1810/cd00000464-1810994.pdf?src-supplier=Digi-Key; ComponentLink2Description: https://datasheet.ciiva.com/1810/cd00000464-1810994.pdf?src-supplier=Digi-Key; ComponentLink3URL: https://datasheet.ciiva.com/1810/cd00000464-1810995.pdf?src-supplier=Digi-Key; ComponentLink3Description: https://datasheet.ciiva.com/1810/cd00000464-1810995.pdf?src-supplier=Digi-Key; ComponentLink4URL: https://datasheet.ciiva.com/1810/cd00000464-1810996.pdf?src-supplier=Digi-Key; ComponentLink4Description: https://datasheet.ciiva.com/1810/cd00000464-1810996.pdf?src-supplier=Digi-Key; Manufacturer Part Number: LM358QT
footprint IC DFN8 2x2 (DFN8 2x2)
part A pins: 1 OUT1 (out), 2 IN-1 (in), 3 IN+1 (in), 4 GND (power), 8 VDD (power), 9 GND (power)
part B pins: 5 IN+2 (in), 6 IN-2 (in), 7 OUT2 (out)

## LP5907MFX-1.8/NOPB
designator U?  VALOR: LP5907  (hidden comment: LP5907MFX-1.8/NOPB)
IC REG LDO 1.8V 0.25A SOT23-5 LP5907MFX-1.8; Manufacturer: Texas Instruments; ORIGEM: MoteLight_Ed02; Supplier 1: Digi-Key; Pricing 1: 1=0.55, 10=0.475, 100=0.3547, 500=0.27872, 1000=0.21537 (USD); ComponentLink1URL: http://www.ti.com/lit/ds/symlink/lp5907.pdf?src-supplier=Digi-Key; ComponentLink1Description: http://www.ti.com/lit/ds/symlink/lp5907.pdf?src-supplier=Digi-Key; Supplier Part Number 1: 296-41463-1-ND; Case/Package: SOT-23-5; Manufacturer Part Number: LP5907MFX-1.8/NOPB
footprint IC SOT-23-5
pins: 1 VIN (power), 2 VSS (power), 3 ON/OFF (in), 4 NC, 5 VOUT (power)

## LTV-356T
designator U?
OPTOISO 3.75kV TRANS 4-Pin Mini-Flat LTV-356T; Manufacturer: Lite-On; Manufacturer: Vishay Lite-On; ORIGEM: MoteLight_Ed03; Manufacturer Part Number: LTV-356T; Case/Package: SMD; VALOR: LTV-356T
footprint IC OPTO LTST-LTV-356T-4_V
pins: 1 ANODE, 2 CATHODE, 3 EMITTER, 4 COLLECTOR

## LVK20R030DER
designator R?  VALOR: 30M 0.5%  (hidden comment: LVK20R030DER)
RES SMD 30 MOHM 0.5% 3/4W 2010; Manufacturer: Ohmite; ORIGEM: MoteLight_Ed03; Supplier 1: Mouser; Pricing 1: 1=1,16000, 10=1,02000, 25=0,94400, 50=0,86200, 100=0,74600, 250=0,63000 (USD); Case/Package: 2010; ComponentLink1Description: https://datasheet.ciiva.com/2617/res-lvk-2617280.pdf?src-supplier=Digi-Key; Supplier Part Number 1: 588-LVK20R030DER; Manufacturer Part Number: LVK20R030DER
footprint RES LVK20R030DER (Footprint not found)
pins: 1 V, 2 I, 3 I, 4 V

## M2M_QUAD_SIM
designator U?  VALOR: M2M Card
IC eSIM Full M2M Quad MIM GEMALTO; ORIGEM: MoteLight_Ed03; Case/Package: VQFN8; Manufacturer Part Number: Full M2M Quad MIM; Manufacturer: GEMALTO
footprint IC M2M_QUAD_SIM
pins: 1 GND, 2 CCVPP, 3 CCIO (io), 4 CCDET1, 5 CCDET2, 6 CCCLK, 7 CCRST, 8 CCVCC (power), 9 GND

## M24M01-RMN6TP
designator U?
IC EEPROM 1M I2C 1MHZ 8SO; Manufacturer: STMicroelectronics; ORIGEM: MoteLight_Ed03; Supplier 1: Digi-Key; Manufacturer Part Number: M24M01-RMN6TP; Pricing 1: 1=1,02000, 10=0,92600, 25=0,91400, 50=0,90900, 100=0,81270, 250=0,80568, 500=0,79394, 1000=0,76530 (USD); Case/Package: SOIC; ComponentLink1Description: https://datasheet.ciiva.com/1905/cd00147128-1905280.pdf?src-supplier=Digi-Key; Supplier Part Number 1: 497-6351-1-ND; VALOR: M24M01-RMN6TP
footprint IC 8-SOIC
pins: 1 NC "Dont use", 2 E1 (in) "Chip Enable1", 3 E2 (in) "Chip Enable2", 4 VSS (power) "Ground", 5 SDA (io) "Serial Data", 6 SCL (in) "Serial Clock", 7 /WC (in) "Write Control", 8 VCC (power) "Supply Voltage"

## MC-14632.7680KA-AG0:ROHS
designator Y?  VALOR: XTAL 32.7680KHz
XTAL 32.7680 KHZ 7.0PF SMD; Manufacturer: Epson; Manufacturer Part Number: MC-14632.7680KA-AG0:ROHS; ORIGEM: MoteLight_Ed03; Supplier 1: Digi-Key; Case/Package: SMD/SMT; ComponentLink1Description: https://support.epson.biz/td/api/doc_check.php?dl=brief_MC-156_en.pdf&src-supplier=Digi-Key; Supplier Part Number 1: SER4304DKR-ND
footprint XTAL MC-14632
pins: 1, 4

## MUN5216DW1T1G
designator Q?  VALOR: MUN5216  (hidden comment: MUN5216DW1T1G)
TRANS 2NPN PREBIAS 4.7KOHM 50V SOT-363; Manufacturer: ON Semiconductor; ORIGEM: MoteLight_Ed02; Supplier 1: Digi-Key; Manufacturer Part Number: MUN5216DW1T1G; Pricing 1: 1 = 0,24000, 10 = 0,19700, 100 = 0,10420, 500 = 0,06856, 1000 = 0,04662 (USD); Case/Package: SOT-363-6; ComponentLink1URL: https://datasheet.ciiva.com/6361/dtc143td-d-6361856.pdf?src-supplier=Digi-Key; ComponentLink1Description: https://datasheet.ciiva.com/6361/dtc143td-d-6361856.pdf?src-supplier=Digi-Key; Supplier Part Number 1: MUN5216DW1T1GOSCT-ND
footprint IC SOT-363
part A pins: 3 C, 4 E, 5 B
part B pins: 1 E, 2 B, 6 C
part A text: 4K7; R∞
part B text: 4K7; R∞

## PCF85263ATT/AJ
designator U?
IC RTC CLK/CALENDAR I2C 8TSSOP; Manufacturer: NXP Semiconductors; ORIGEM: MoteLight_Ed03; Supplier 1: Digi-Key; Manufacturer Part Number: PCF85263ATT/AJ; Pricing 1: 1=1,00000, 10=0,89000, 100=0,69390, 500=0,57322, 1000=0,45254 (USD); Case/Package: TSSOP; ComponentLink1Description: http://www.mouser.com/ds/2/302/PCF85263A-842237.pdf?src-supplier=Mouser; Supplier Part Number 1: 568-12406-1-ND; VALOR: PCF85263ATT/AJ
footprint IC 8-TSSOP
pins: 1 OSCI (in), 2 OSCO (out), 3 VBAT (power), 4 VSS (power), 5 SDA (io), 6 SCL (in), 7 /INTA (out), 8 VDD (power)

## RB521S-30L2-TP
designator D?  VALOR: 30V 0.1A  (hidden comment: RB521S-30L2-TP)
DIO SCHOTTKY 30V 100MA 2TDFN; Manufacturer: MCC; ORIGEM: MoteLight_Ed03; Supplier 1: Digi-Key; Supplier Part Number 1: RB521S-30L2-TPMSCT-ND; Pricing 1: 1=0,24000, 10=0,19400, 25=0,16200, 100=0,07920, 250=0,07796, 500=0,06606, 1000=0,04590, 2500=0,04266, 5000=0,03690 (USD); ComponentLink1URL: http://www.mccsemi.com/up_pdf/RB521S-30L2(DFN1006-2L)-A.pdf?src-supplier=Digi-Key; ComponentLink1Description: http://www.mccsemi.com/up_pdf/RB521S-30L2(DFN1006-2L)-A.pdf?src-supplier=Digi-Key; Manufacturer Part Number: RB521S-30L2-TP; Case/Package: 2TDFN
footprint DIO DFN1006-2L (DIODE SMAL 0402)
pins: 1 A, 2 K

## RC0402FR-0710K5L
designator R?  VALOR: 10.5R 1%  (hidden comment: RC0402FR-0710K5L)
RES SMD 10.5K OHM 1% 1/16W 0402; Manufacturer: Yageo; ORIGEM: MoteLight_Ed03; Supplier 1: Digi-Key; Manufacturer Part Number: RC0402FR-0710K5L; Pricing 1: 1=0.1, 10=0.016, 100=0.0067, 1000=0.00301, 2500=0.00261, 5000=0.00215 (USD); ComponentLink1Description: http://www.yageo.com/documents/recent/PYu-RC0402_51_RoHS_L_6.pdf?src-supplier=Avnet+Europe; Supplier Part Number 1: YAG2951CT-ND; Case/Package: 0402
footprint RES 0402 (RESISTOR 0402)
pins: 1, 2

## RC0402FR-0715KL
designator R?  VALOR: 15K 1%  (hidden comment: RC0402FR-0715KL)
RES SMD 15K OHM 1% 1/16W 0402; Manufacturer: Yageo; ORIGEM: MoteLight_Ed03; Case/Package: 0402; Manufacturer Part Number: RC0402FR-0715KL; Supplier 1: Mouser; Supplier Part Number 1: 603-RC0402FR-0715KL
footprint RES 0402 (RESISTOR 0402)
pins: 1, 2
1 alternate drawing of the same symbol

## RC0402FR-0747R5L
designator R?  VALOR: 47.5k  (hidden comment: RC0402FR-0747R5L)
RES SMD 47K5 OHM 1% 1/16W 0402; Manufacturer: Yageo; ORIGEM: MoteLight_Ed03; Case/Package: 0402; Manufacturer Part Number: RC0402FR-0747R5L; Supplier 1: Digi-Key; Supplier Part Number 1: RMCF0402FT47K5CT-ND
footprint RES 0402 (RESISTOR 0402)
pins: 1, 2
1 alternate drawing of the same symbol

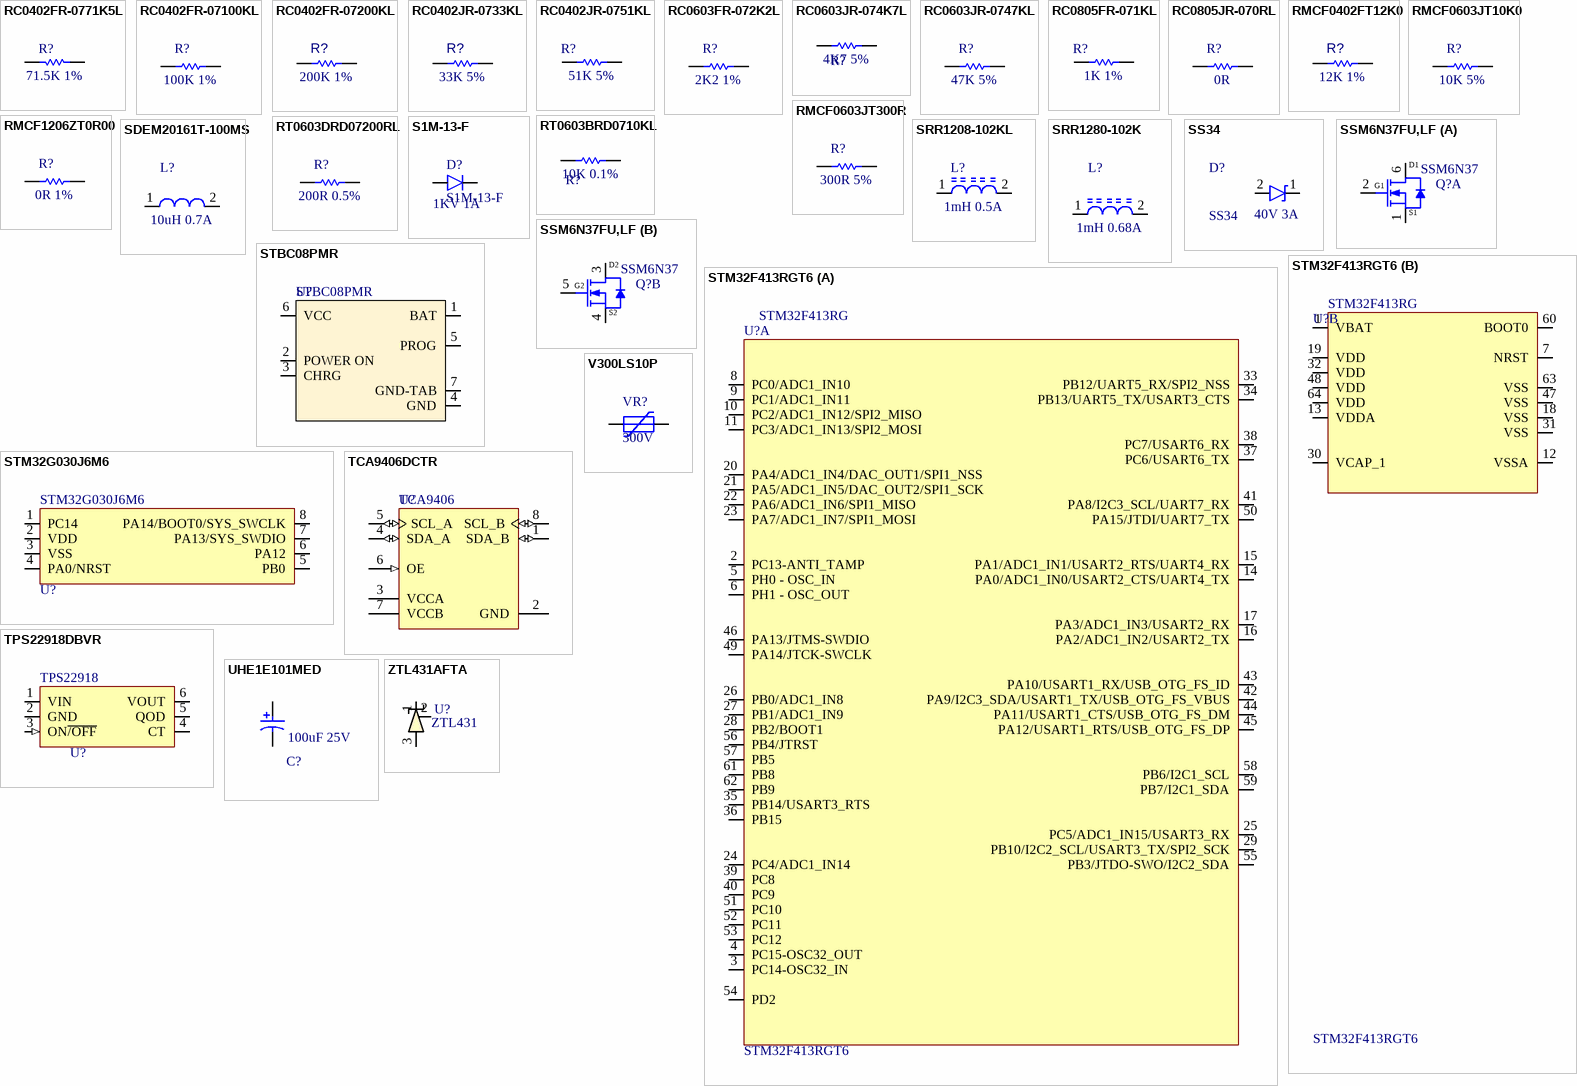
[diagram p2: symbols RC0402FR-0771K5L to ZTL431AFTA]

## RC0402FR-0771K5L
designator R?  VALOR: 71.5K 1%  (hidden comment: RC0402FR-0771K5L)
RES SMD 71.5K OHM 1% 1/16W 0402; Manufacturer: Yageo; ORIGEM: MoteLight_Ed03; Supplier 1: Digi-Key; Pricing 1: 1=0,10000, 10=0,01600, 100=0,00640, 1000=0,00289, 2500=0,00251, 5000=0,00207 (USD); Case/Package: 0402; ComponentLink1Description: https://datasheet.ciiva.com/5558/pyu-rc0402-51-rohs-l-6-r-5558294.pdf?src-supplier=Mouser; Supplier Part Number 1: YAG3222CT-ND; Manufacturer Part Number: RC0402FR-0771K5L
footprint RES 0402 (RESISTOR 0402)
pins: 1, 2

## RC0402FR-07100KL
designator R?  VALOR: 100K 1%  (hidden comment: RC0402FR-07100KL)
RES SMD 100K OHM 1% 1/16W 0402; Manufacturer: Yageo; ORIGEM: MoteLight_Ed03; Supplier 1: Digi-Key; Manufacturer Part Number: RC0402FR-07100KL; Pricing 1: 1=0.1, 10=0.016, 100=0.0067, 1000=0.00301, 2500=0.00261, 5000=0.00215 (USD); Case/Package: 0402; ComponentLink1Description: http://www.yageo.com/documents/recent/PYu-RC_Group_51_RoHS_L_10.pdf?src-supplier=Digi-Key; Supplier Part Number 1: 311-100KLRCT-ND
footprint RES 0402 (RESISTOR 0402)
pins: 1, 2

## RC0402FR-07200KL
designator R?  VALOR: 200K 1%  (hidden comment: RC0402FR-07200KL)
RES SMD 200K OHMS 1% 1/16W 0402; Manufacturer: Yageo; ORIGEM: MoteLight_Ed03; Case/Package: 0402; Manufacturer Part Number: RC0402FR-07200KL; Supplier 1: Digi-Key; Supplier Part Number 1: 311-200KLRCT-ND
footprint RES 0402 (RESISTOR 0402)
pins: 1, 2
1 alternate drawing of the same symbol

## RC0402JR-0733KL
designator R?  VALOR: 33K 5%  (hidden comment: RC0402JR-0733KL)
RES SMD 33K OHM 5% 1/16W 0402; Manufacturer: Yageo; ORIGEM: MoteLight_Ed03; Case/Package: 0402; Manufacturer Part Number: RC0402JR-0733KL; Supplier 1: Digi-Key; Supplier Part Number 1: 311-33KJRCT-ND
footprint RES 0402 (RESISTOR 0402)
pins: 1, 2
1 alternate drawing of the same symbol

## RC0402JR-0751KL
designator R?  VALOR: 51K 5%  (hidden comment: RC0402JR-0751KL)
RES SMD 51K OHM 5% 1/16W 0402; Manufacturer: Yageo; ORIGEM: MoteLight_Ed03; Case/Package: 0402; Manufacturer Part Number: RC0402JR-0751KL; Supplier 1: Digi-Key; Supplier Part Number 1: 311-51KJRCT-ND
footprint RES 0402 (RESISTOR 0402)
pins: 1, 2

## RC0603FR-072K2L
designator R?  VALOR: 2K2 1%  (hidden comment: RC0603FR-072K2L)
RES SMD 2K2 OHM 1% 0.1W 0603; Manufacturer: Yageo Phycomp; ORIGEM: MoteLight_Ed03; Supplier 1: Digi-Key; Manufacturer Part Number: RC0603FR-072K2L; Pricing 1: 1=0.1, 10=0.024, 100=0.0097, 1000=0.00437, 2500=0.00379 (USD); Supplier Part Number 1: 311-2.20KHRCT-ND; Case/Package: 0603
footprint RES 0603 (RESISTOR 0603)
pins: 1, 2

## RC0603JR-074K7L
designator R?  VALOR: 4K7 5%  (hidden comment: RC0603JR-074K7L)
RES SMD 4.7K OHM 5% 1/10W 0603; Manufacturer: Yageo; ORIGEM: MoteLight_Ed02; Supplier 1: Newark; Manufacturer Part Number: RC0603JR-074K7L; Case/Package: 0603; ComponentLink1URL: http://www.farnell.com/datasheets/443971.pdf; ComponentLink1Description: http://www.farnell.com/datasheets/443971.pdf; Supplier Part Number 1: 12AC2171
footprint RES 0603 (RESISTOR 0603)
pins: 1, 2

## RC0603JR-0747KL
designator R?  VALOR: 47K 5%  (hidden comment: RC0603JR-0747KL)
RES SMD 47K OHM 5% 1/10W 0603; Manufacturer: Yageo Phycomp; ORIGEM: MoteLight_Ed03; Supplier 1: Digi-Key; Manufacturer Part Number: RC0603JR-0747KL; Pricing 1: 1=0.1, 10=0.02, 100=0.0081, 1000=0.00362, 2500=0.00314 (USD); Case/Package: 0603; Supplier Part Number 1: 311-47KGRCT-ND
footprint RES 0603 (RESISTOR 0603)
pins: 1, 2

## RC0805FR-071KL
designator R?  VALOR: 1K 1%  (hidden comment: RC0805FR-071KL)
RES SMD 1K OHM 1% 1/8W 0805; Manufacturer: Yageo; ORIGEM: MoteLight_Ed03; Case/Package: 0805; Manufacturer Part Number: RC0805FR-071KL; Supplier 1: Digi-Key; Supplier Part Number 1: 311-1.00KCRCT-ND
footprint RES 0805 (RESISTOR 0805)
pins: 1, 2

## RC0805JR-070RL
designator R?  VALOR: 0R  (hidden comment: RC0805JR-070RL)  (net tie, no BOM)
RES SMD 0 OHM 1/8W 0805; Manufacturer: Yageo; ORIGEM: MoteLight_Ed03; Supplier 1: Digi-Key; Manufacturer Part Number: RC0805JR-070RL; Pricing 1: 1=0.1, 10=0.037, 25=0.0272, 50=0.0206, 100=0.0153, 250=0.01164, 500=0.0093, 1000=0.00685 (USD); Case/Package: 0805; ComponentLink1Description: http://www.farnell.com/datasheets/1738694.pdf?src-supplier=Element14; Supplier Part Number 1: 311-0.0ARDKR-ND
footprint RES 0805 (RESISTOR 0805)
pins: 1, 2

## RMCF0402FT12K0
designator R?  VALOR: 12K 1%  (hidden comment: RMCF0402FT12K0)
RES SMD 12K OHM 1% 1/16W 0402; Manufacturer: Stackpole Electronics Inc; ORIGEM: MoteLight_Ed03; Case/Package: 0402; Manufacturer Part Number: RMCF0402FT12K0; Supplier 1: Digi-Key; Supplier Part Number 1: RMCF0402FT12K0CT-ND
footprint RES 0402 (RESISTOR 0402)
pins: 1, 2
1 alternate drawing of the same symbol